# Altium footprint library Sensors_PCB_LIB.PcbLib: 10 footprints
Each footprint in its own frame and in the unit in brackets; x right, y up, seen from the top. Pads: shape width x height; smd on the part's side, far side on the other; paste and mask are expansions set on the pad; w line width, h text height; cw(c..) or ccw(c..) is an arc to the next point about the centre after c.
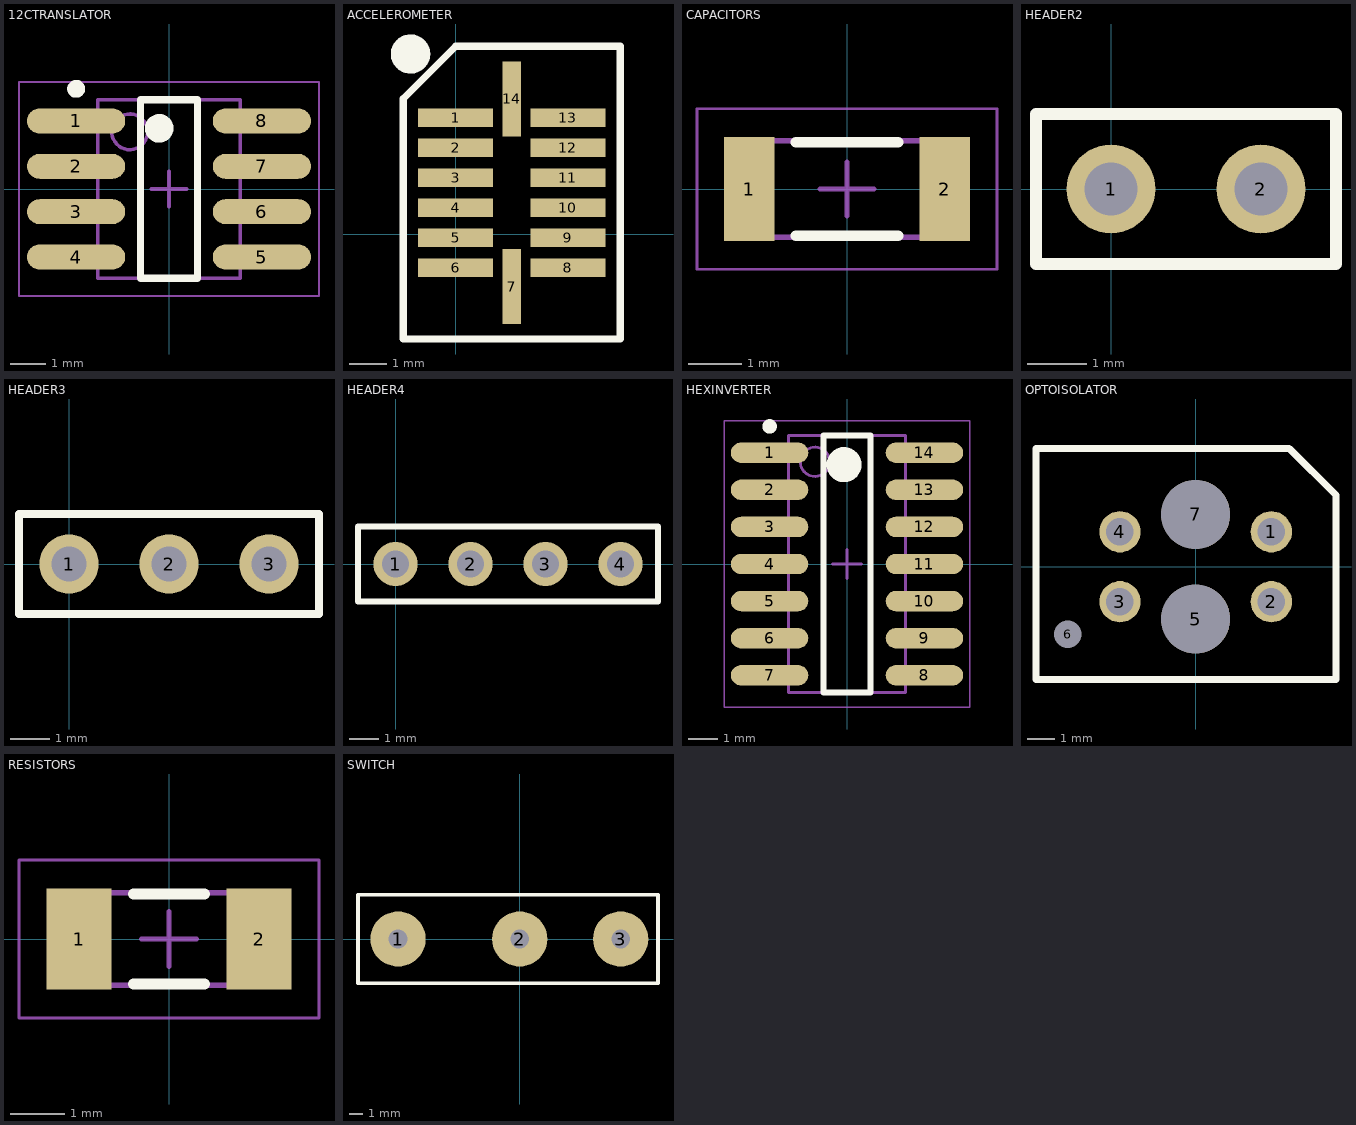
[diagram p0: the footprints below, top view; thin cyan lines are the x and y axes]

## 12CTRANSLATOR [mm] "TSOP, 8-Leads, Body 4.90x3.90mm, Pitch 1.27mm, IPC Low Density"
height 0.25
pads (8):
  oval 2.75x0.7 smd: 1(-2.6,1.905) 2(-2.6,0.635) 3(-2.6,-0.635) 4(-2.6,-1.905) 5(2.6,-1.905) 6(2.6,-0.635) 7(2.6,0.635) 8(2.6,1.905)
Top Overlay:
  circle w0.25: c-2.6,2.805 r0.125
  circle w0.4: c-0.275,1.7 r0.2
  lines w0.2: -0.8,-2.5 -0.8,2.5 0.8,2.5 0.8,-2.5 -0.8,-2.5
Mechanical 13:
  circle w0.1: c-1.1,1.6 r0.5
  lines w0.1: -2,-2.5 -2,2.5 2,2.5 2,-2.5 -2,-2.5
Mechanical 15:
  lines w0.05: -4.2,-3 -4.2,3 4.2,3 4.2,-3 -4.2,-3
  lines w0.1: -0.5,0 0.5,0 ; 0,-0.5 0,0.5
3D body: height 0.25, standoff 0.19, extent -2,-2.5 2,2.5

## ACCELEROMETER [mm]
pads (14):
  rect 2x0.5 smd: 1(0,3.1) 2(0,2.3) 3(0,1.5) 4(0,0.7) 5(0,-0.1) 6(0,-0.9) 8(3,-0.9) 9(3,-0.1) 10(3,0.7) 11(3,1.5) 12(3,2.3) 13(3,3.1)
  rect 0.5x2 smd: 7(1.5,-1.4) 14(1.5,3.6)
Top Overlay:
  circle w0.254: c-1.2,4.8 r0.4
  region: -1.5,5.2 -1.5,4.5 -0.9,4.5 -0.9,5.2
  lines w0.2: -1.4,-2.8 4.4,-2.8 4.4,5 0,5 -1.4,3.6 -1.4,-2.8

## CAPACITORS [mm] "Chip Capacitor, 2-Leads, Body 3.20x1.60mm, IPC Low Density"
height 1.8
pads (2):
  rect 0.95x1.95 smd: 1(-1.825,0) 2(1.825,0)
Top Overlay:
  lines w0.2: -0.95,-0.875 0.95,-0.875 ; -0.95,0.875 0.95,0.875
Mechanical 13:
  lines w0.1: -1.7,-0.9 -1.7,0.9 1.7,0.9 1.7,-0.9 -1.7,-0.9
Mechanical 15:
  lines w0.05: -2.8,-1.5 -2.8,1.5 2.8,1.5 2.8,-1.5 -2.8,-1.5
  lines w0.1: -0.5,0 0.5,0 ; 0,-0.5 0,0.5
3D body: height 1.8, standoff 0, extent -1.5,-0.9 1.5,0.9
3D body: height 1.8, standoff 0, extent -1.7,-0.9 -1.5,0.9
3D body: height 1.8, standoff 0, extent 1.5,-0.9 1.7,0.9

## HEADER2 [mm] "Connector; Header; 2 Position"
pads (2):
  round 1.5 hole 0.9: 1(0,0) 2(2.54,0)
Top Overlay:
  lines w0.2: -1.27,-1.27 3.81,-1.27 3.81,1.27 -1.27,1.27 -1.27,-1.27

## HEADER3 [mm] "Connector; Header; 3 Position"
pads (3):
  round 1.5 hole 0.9: 1(0,0) 2(2.54,0) 3(5.08,0)
Top Overlay:
  lines w0.2: -1.27,-1.27 -1.27,1.27 6.35,1.27 6.35,-1.27 -1.27,-1.27

## HEADER4 [mm] "Connector; Header; 4 Position"
pads (4):
  round 1.5 hole 0.9: 1(0,0) 2(2.54,0) 3(5.08,0) 4(7.62,0)
Top Overlay:
  lines w0.2: -1.27,-1.27 8.89,-1.27 8.89,1.27 -1.27,1.27 -1.27,-1.27

## HEXINVERTER [mm] "SOP, 14-Leads, Body 8.63x3.90mm, Pitch 1.27mm, IPC Low Density"
height 1.75
pads (14):
  oval 2.65x0.7 smd: 1(-2.65,3.81) 2(-2.65,2.54) 3(-2.65,1.27) 4(-2.65,0) 5(-2.65,-1.27) 6(-2.65,-2.54) 7(-2.65,-3.81) 8(2.65,-3.81) 9(2.65,-2.54) 10(2.65,-1.27) 11(2.65,0) 12(2.65,1.27) 13(2.65,2.54) 14(2.65,3.81)
Top Overlay:
  circle w0.25: c-2.65,4.71 r0.125
  circle w0.6: c-0.1,3.4 r0.3
  lines w0.2: -0.8,-4.4 -0.8,4.4 0.8,4.4 0.8,-4.4 -0.8,-4.4
Mechanical 13:
  circle w0.1: c-1.1,3.5 r0.5
  lines w0.1: -2,-4.4 -2,4.4 2,4.4 2,-4.4 -2,-4.4
Mechanical 15:
  lines w0.05: -4.2,-4.9 -4.2,4.9 4.2,4.9 4.2,-4.9 -4.2,-4.9
  lines w0.1: -0.5,0 0.5,0 ; 0,-0.5 0,0.5
3D body: height 1.75, standoff 0.19, extent -2,-4.4 2,4.4

## OPTOISOLATOR [mm]
pads (7):
  round 1.5 hole 1: 1(2.75,1.27) 2(2.75,-1.27) 3(-2.75,-1.27) 4(-2.75,1.27)
  round 2.5 hole 2.5 unplated: 5(0,-1.9) 7(0,1.9)
  round 0.6 hole 1 unplated: 6(-4.65,-2.45)
Top Overlay:
  lines w0.254: -5.8,-4.1 5.1,-4.1 5.1,2.6 3.4,4.3 -5.8,4.3 -5.8,-4.1

## RESISTORS [mm] "Chip Resistor, 2-Leads, Body 3.10x1.60mm, IPC Low Density"
height 0.7
pads (2):
  rect 1.2x1.85 smd: 1(-1.65,0) 2(1.65,0)
Top Overlay:
  lines w0.2: -0.65,-0.825 0.65,-0.825 ; -0.65,0.825 0.65,0.825
Mechanical 13:
  lines w0.1: -1.6,-0.85 -1.6,0.85 1.6,0.85 1.6,-0.85 -1.6,-0.85
Mechanical 15:
  lines w0.05: -2.75,-1.45 -2.75,1.45 2.75,1.45 2.75,-1.45 -2.75,-1.45
  lines w0.1: -0.5,0 0.5,0 ; 0,-0.5 0,0.5
3D body: height 0.7, standoff 0, extent -1.25,-0.85 1.25,0.85
3D body: height 0.7, standoff 0, extent -1.6,-0.85 -1.25,0.85
3D body: height 0.7, standoff 0, extent 1.25,-0.85 1.6,0.85

## SWITCH [mm]
pads (3):
  round 4 hole 1.36: 1(-8.8,0) 2(0,0) 3(7.3,0)
Top Overlay:
  lines w0.254: -11.7,-3.2 10,-3.2 10,3.2 -11.7,3.2 -11.7,-3.2